# Altium footprint library TO-252-3.PcbLib: 1 footprints
Each footprint in its own frame and in the unit in brackets; x right, y up, seen from the top. Pads: shape width x height; smd on the part's side, far side on the other; paste and mask are expansions set on the pad; w line width, h text height; cw(c..) or ccw(c..) is an arc to the next point about the centre after c.
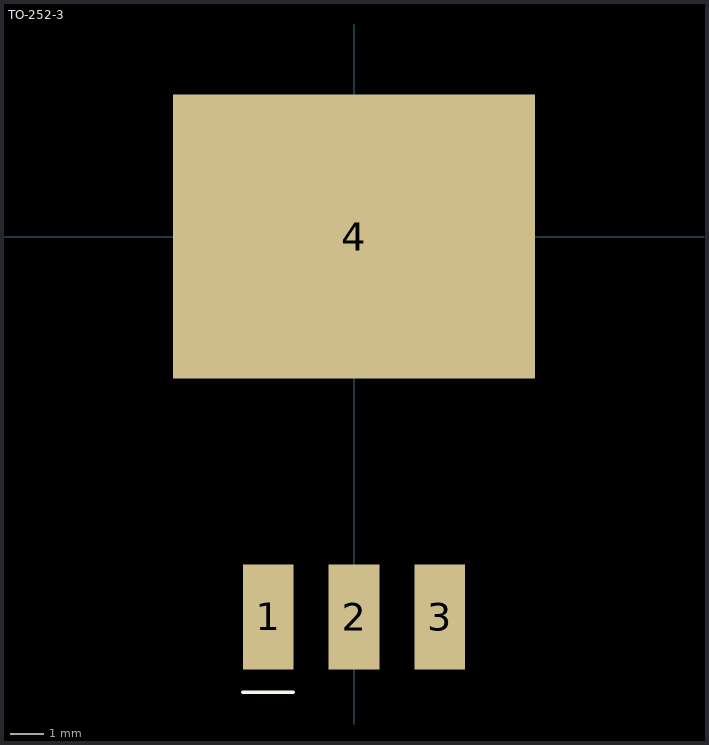
[diagram p0: the footprint, top view; thin cyan lines are the x and y axes]

## TO-252-3 [mm]
pads (4):
  rect 1.5x3.1 smd mask+0.051: 1(-2.54,-11.25) 2(0,-11.25) 3(2.54,-11.25)
  rect 10.7x8.4 smd mask+0.051: 4(0,0)
Top Overlay:
  lines w0.1: -3.29,-13.475 -1.79,-13.475
3D body "TO-252-3.step": height 2.42, standoff 0.01, extent -3.35,-10.352 3.35,0